# Altium footprint library PARSEC.PcbLib: 20 footprints (part 1 of 2)
Each footprint in its own frame and in the unit in brackets; x right, y up, seen from the top. Pads: shape width x height; smd on the part's side, far side on the other; paste and mask are expansions set on the pad; w line width, h text height; cw(c..) or ccw(c..) is an arc to the next point about the centre after c.
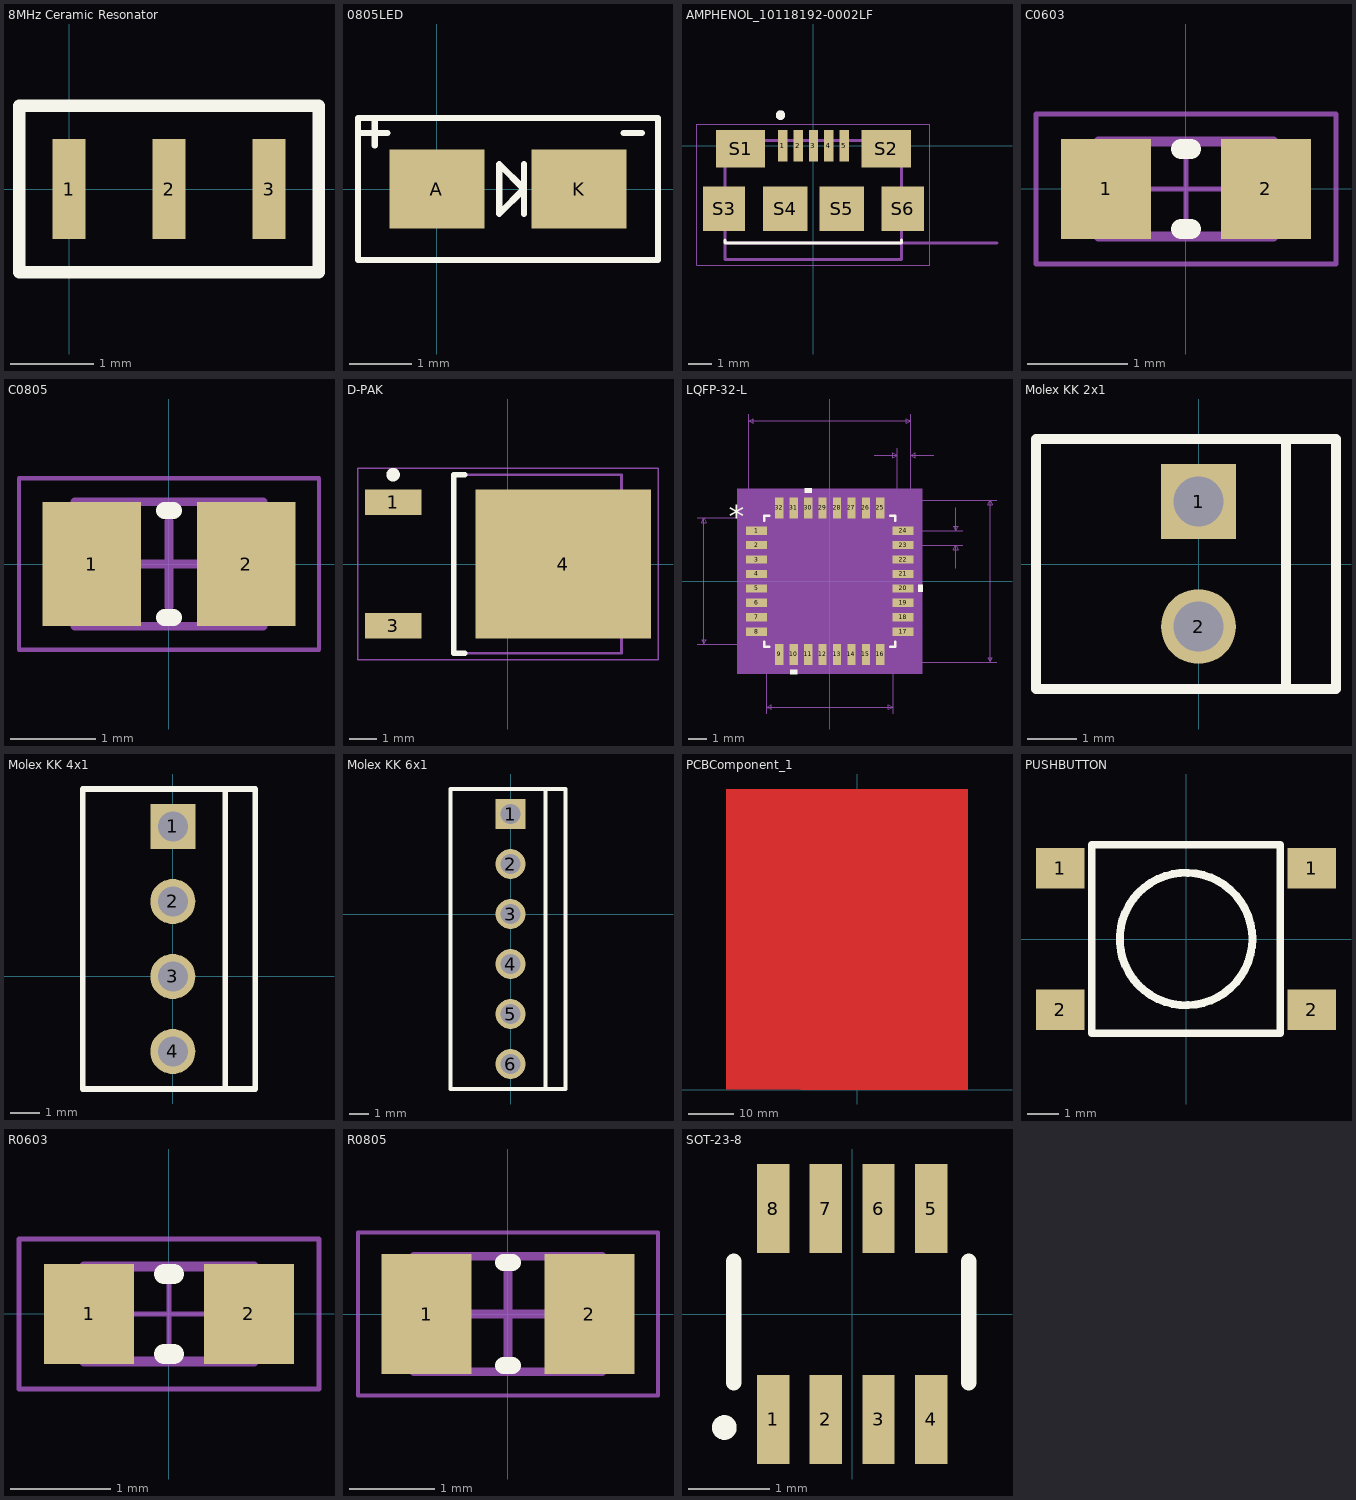
[diagram p0: the footprints below, top view; thin cyan lines are the x and y axes]

## 8MHz Ceramic Resonator [mm] "8MHz Ceramic Resonator Murata"
pads (3):
  rect 0.4x1.2 smd: 1(0,0) 2(1.2,0) 3(2.4,0)
Top Overlay:
  lines w0.15: -0.6,-1 3,-1 3,1 -0.6,1 -0.6,-1

## 0805LED [mil]
pads (2):
  rect 60x50 smd: A(0,0) K(90,0)
Top Overlay:
  lines w4: -50,35.43 -31.5,35.43 ; -39.37,27.56 -39.37,43.31 ; 55.12,-15.75 55.12,15.75 ; 118.11,35.43 129.92,35.43 ; -50,-45 -50,45 140,45 140,-45 -50,-45 ; 39.37,-15.75 39.37,15.75 55.12,0 39.37,-15.75
3D body "User Library-LED SMD0805.step": height 33.45, standoff 0.23, extent -0.6,-15.68 80.6,20

## AMPHENOL_10118192-0002LF [mm]
pads (11):
  rect 0.4x1.35 smd: 1(-1.3,0) 2(-0.65,0) 3(0,0) 4(0.65,0) 5(1.3,0)
  rect 2.1x1.6 smd: S1(-3.1,-0.125) S2(3.1,-0.125)
  rect 1.8x1.9 smd: S3(-3.8,-2.675) S6(3.8,-2.675)
  rect 1.9x1.9 smd: S4(-1.2,-2.675) S5(1.2,-2.675)
Top Overlay:
  circle w0.2: c-1.4,1.3 r0.1
  lines w0.127: -3.75,-4 -3.75,-4.125 3.75,-4.125 3.75,-4
Mechanical 13:
  circle w0.2: c-1.4,1.3 r0.1
  lines w0.127: 7.8,-4.125 3.75,-4.125 ; -3.75,-4.125 3.75,-4.125 ; -3.75,-4.125 -3.75,0.225 3.75,0.225 3.75,-4.125 ; -3.75,-4.125 -3.75,-4.825 3.75,-4.825 3.75,-4.125
  text "PCB Edge" at 5.1,-3.8 h0.41
Mechanical 15:
  lines w0.05: -4.95,-5.075 -4.95,0.925 4.95,0.925 4.95,-5.075 -4.95,-5.075

## C0603 [mm] "Chip Capacitor, Body 1.6x0.8mm, Height 1.0mm, IPC Medium Density"
height 1
pads (2):
  rect 0.9x1 smd: 1(-0.8,0) 2(0.8,0)
Top Overlay:
  lines w0.2: -0.05,-0.4 0.05,-0.4 ; -0.05,0.4 0.05,0.4
Mechanical 13:
  lines w0.1: -0.875,-0.475 0.875,-0.475 0.875,0.475 -0.875,0.475 -0.875,-0.475
Mechanical 15:
  lines w0.05: -0.475,0 0.475,0 ; 0,-0.475 0,0.475 ; -1.5,-0.75 1.5,-0.75 1.5,0.75 -1.5,0.75 -1.5,-0.75
3D body: height 1, standoff 0, extent 0.525,-0.475 0.875,0.475
3D body: height 1, standoff 0, extent -0.875,-0.475 -0.525,0.475
3D body: height 1, standoff 0, extent -0.525,-0.475 0.525,0.475

## C0805 [mm] "Chip Capacitor, Body 2.0x1.2mm, Height 0.75mm, IPC Medium Density"
height 0.75
pads (2):
  rect 1.15x1.45 smd: 1(-0.9,0) 2(0.9,0)
Top Overlay:
  lines w0.2: -0.05,-0.625 0.05,-0.625 ; -0.05,0.625 0.05,0.625
Mechanical 13:
  lines w0.1: -1.1,-0.725 -1.1,0.725 1.1,0.725 1.1,-0.725 -1.1,-0.725
Mechanical 15:
  lines w0.05: -1.75,-1 -1.75,1 1.75,1 1.75,-1 -1.75,-1
  lines w0.1: -0.5,0 0.5,0 ; 0,-0.5 0,0.5
3D body "User Library-cap0805.STEP": height 0.93, standoff -0.01, extent -1.425,-0.667 1.575,0.733

## D-PAK [mm] "D-PAK, 4-Leads, Body 6.1x6.5mm, Pitch 2.28mm, Lead Span 9.7mm, IPC Medium Density"
height 2.4
pads (3):
  rect 2.1x0.95 smd: 1(-4.25,2.28) 3(-4.25,-2.28)
  rect 6.5x5.5 smd: 4(2.05,0)
Top Overlay:
  circle w0.25: c-4.25,3.305 r0.125
  lines w0.2: -1.6,-3.3 -2,-3.3 -2,3.3 -1.6,3.3
Mechanical 13:
  lines w0.1: -2,-3.3 4.2,-3.3 4.2,3.3 -2,3.3 -2,-3.3
Mechanical 15:
  lines w0.05: -5.55,-3.55 5.55,-3.55 5.55,3.55 -5.55,3.55 -5.55,-3.55
  lines w0.1: -0.5,0 0.5,0 ; 0,-0.5 0,0.5
3D body "User Library-TO252AA.step": height 2.3, standoff -0.01, extent -4.596,-3.278 5.104,3.302

## LQFP-32-L [mil]
pads (32):
  rect 46x18 smd paste+0 mask+0: 1(-160,110.24) 2(-160,78.74) 3(-160,47.24) 4(-160,15.75) 5(-160,-15.75) 6(-160,-47.24) 7(-160,-78.74) 8(-160,-110.24) 17(160,-110.24) 18(160,-78.74) 19(160,-47.24) 20(160,-15.75) 21(160,15.75) 22(160,47.24) 23(160,78.74) 24(160,110.24)
  rect 18x46 smd paste+0 mask+0: 9(-110.24,-160) 10(-78.74,-160) 11(-47.24,-160) 12(-15.75,-160) 13(15.75,-160) 14(47.24,-160) 15(78.74,-160) 16(110.24,-160) 25(110.24,160) 26(78.74,160) 27(47.24,160) 28(15.75,160) 29(-15.75,160) 30(-47.24,160) 31(-78.74,160) 32(-110.24,160)
Top Overlay:
  region: -71.24,-193 -86.24,-193 -86.24,-203 -71.24,-203
  region: 193,-8.25 203,-8.25 203,-23.25 193,-23.25
  region: -39.74,193 -54.74,193 -54.74,203 -39.74,203
  lines w6: -143,-132.34 -143,-143 -132.34,-143 ; -143,132.34 -143,143 -132.34,143 ; 132.34,-143 143,-143 143,-132.34 ; 132.34,143 143,143 143,132.34
  text "*" at -220.5,115.98 h50
Mechanical 5:
  region: 202,-202 -202,-202 -202,202 202,202
Mechanical 7:
  lines w1: -290,-138 -110.24,-138 ; -290,138 -110.24,138 ; -177,110.24 -177,365 ; -138,-290 -138,-110.24 ; 97,275 147,275 ; 110.24,-177 365,-177 ; 110.24,177 365,177 ; 138,-290 138,-110.24 ; 147,110.24 147,290 ; 160,78.74 290,78.74 ; 160,110.24 290,110.24 ; 177,290 177,110.24 177,365 ; 227,275 177,275 ; 275,28.74 275,78.74 ; 275,160.24 275,110.24 ; -275,-138 -275,138 ; -275,-138 -280,-128 -270,-128 -275,-138 ; -275,138 -280,128 -270,128 -275,138 ; -177,350 177,350 ; -177,350 -167,355 -167,345 -177,350 ; -138,-275 138,-275 ; -138,-275 -128,-270 -128,-280 -138,-275 ; 138,-275 128,-270 128,-280 138,-275 ; 147,275 137,280 137,270 147,275 ; 177,275 187,280 187,270 177,275 ; 177,350 167,355 167,345 177,350 ; 275,78.74 270,68.74 280,68.74 275,78.74 ; 275,110.24 270,120.24 280,120.24 275,110.24 ; 350,-177 350,177 ; 350,-177 345,-167 355,-167 350,-177 ; 350,177 345,167 355,167 350,177
  text "Default Horiz Padstyle: RX18Y46D0T" at -425,-425 h50
  text "Default Vert Padstyle: RX18Y46D0T" at -412.5,-485 h50
  text "Alt 1 Padstyle: OX60Y90D30P" at -337.5,-665 h50
  text "Alt 2 Padstyle: OX90Y60D30P" at -337.5,-725 h50
  text "0.031in/0.8mm" at 295,81.99 h25
  text "0.03in/0.762mm" at 74.5,295 h25
  text "0.354in/8.992mm" at -93.75,370 h25
  text "0.276in/7.01mm" at -87.5,-320 h25
  text "0.276in/7.01mm" at -470,-12.5 h25
  text "0.354in/8.992mm" at 370,-12.5 h25
Mechanical 13:
  lines w1: -138,88 -88,138 ; -177,-119.24 -177,-101.24 -138,-101.24 -138,-119.24 -177,-119.24 ; -177,-87.74 -177,-69.74 -138,-69.74 -138,-87.74 -177,-87.74 ; -177,-56.24 -177,-38.24 -138,-38.24 -138,-56.24 -177,-56.24 ; -177,-24.75 -177,-6.75 -138,-6.75 -138,-24.75 -177,-24.75 ; -177,6.75 -177,24.75 -138,24.75 -138,6.75 -177,6.75 ; -177,38.24 -177,56.24 -138,56.24 -138,38.24 -177,38.24 ; -177,69.74 -177,87.74 -138,87.74 -138,69.74 -177,69.74 ; -177,101.24 -177,119.24 -138,119.24 -138,101.24 -177,101.24 ; -138,-138 138,-138 138,138 -138,138 -138,-138 ; -119.24,-177 -119.24,-138 -101.24,-138 -101.24,-177 -119.24,-177 ; -119.24,138 -101.24,138 -101.24,177 -119.24,177 -119.24,138 ; -87.74,-177 -87.74,-138 -69.74,-138 -69.74,-177 -87.74,-177 ; -87.74,138 -69.74,138 -69.74,177 -87.74,177 -87.74,138 ; -56.24,-177 -56.24,-138 -38.24,-138 -38.24,-177 -56.24,-177 ; -56.24,138 -38.24,138 -38.24,177 -56.24,177 -56.24,138 ; -24.75,-177 -24.75,-138 -6.75,-138 -6.75,-177 -24.75,-177 ; -24.75,138 -6.75,138 -6.75,177 -24.75,177 -24.75,138 ; 6.75,-177 6.75,-138 24.75,-138 24.75,-177 6.75,-177 ; 6.75,138 24.75,138 24.75,177 6.75,177 6.75,138 ; 38.24,-177 38.24,-138 56.24,-138 56.24,-177 38.24,-177 ; 38.24,138 56.24,138 56.24,177 38.24,177 38.24,138 ; 69.74,-177 69.74,-138 87.74,-138 87.74,-177 69.74,-177 ; 69.74,138 87.74,138 87.74,177 69.74,177 69.74,138 ; 101.24,-177 101.24,-138 119.24,-138 119.24,-177 101.24,-177 ; 101.24,138 119.24,138 119.24,177 101.24,177 101.24,138 ; 138,-119.24 138,-101.24 177,-101.24 177,-119.24 138,-119.24 ; 138,-87.74 138,-69.74 177,-69.74 177,-87.74 138,-87.74 ; 138,-56.24 138,-38.24 177,-38.24 177,-56.24 138,-56.24 ; 138,-24.75 138,-6.75 177,-6.75 177,-24.75 138,-24.75 ; 138,6.75 138,24.75 177,24.75 177,6.75 138,6.75 ; 138,38.24 138,56.24 177,56.24 177,38.24 138,38.24 ; 138,69.74 138,87.74 177,87.74 177,69.74 138,69.74 ; 138,101.24 138,119.24 177,119.24 177,101.24 138,101.24
  text "*" at -135.5,100.98 h50
Mechanical 15:
  region: -123.24,-142 -142,-142 -142,-123.24 -187,-123.24 -187,123.24 -142,123.24 -142,142 -123.24,142 -123.24,187 123.24,187 123.24,142 142,142 142,123.24 187,123.24 187,-123.24 142,-123.24 142,-142 123.24,-142 123.24,-187 -123.24,-187
  lines w6: -187,-123.24 -142,-123.24 -142,-142 -123.24,-142 -123.24,-187 123.24,-187 123.24,-142 142,-142 142,-123.24 187,-123.24 187,123.24 142,123.24 142,142 123.24,142 123.24,187 -123.24,187 -123.24,142 -142,142 -142,123.24 -187,123.24 -187,-123.24
3D body: height 10, standoff 0, extent 0,0 10,10

## Molex KK 2x1 [mil]
pads (2):
  rect 60x60 hole 40: 1(0,50)
  round 60 hole 40: 2(0,-50)
Top Overlay:
  lines w7.87: -120,-100 110,-100 110,100 -130,100 -130,-60 -130,-100 -110,-100 ; 70,-100 70,100
3D body "User Library-molex kk 0_1in latching 2 way vertical header.step": height 457.5, standoff -142.5, extent -120,-100 110,100

## Molex KK 4x1 [mil]
pads (4):
  rect 60x60 hole 40: 1(0,200)
  round 60 hole 40: 2(0,100) 3(0,0) 4(0,-100)
Top Overlay:
  lines w7.87: 70,-150 70,250 ; -120,-150 110,-150 110,250 -120,250 -120,-120 -120,-150
3D body "User Library-molex kk 0_1in latching 4 way vertical header.step": height 457.5, standoff -142.5, extent -120,-150 110,250

## Molex KK 6x1 [mil]
pads (6):
  rect 60x60 hole 40: 1(0,200)
  round 60 hole 40: 2(0,100) 3(0,0) 4(0,-100) 5(0,-200) 6(0,-300)
Top Overlay:
  lines w7.87: 70,-350 70,250 ; -120,-350 110,-350 110,250 -120,250 -120,-120 -120,-350
3D body "User Library-molex kk 0_1in latching 6 way vertical header.step": height 457.5, standoff -142.5, extent -120,-350 110,250

## PCBComponent_1 [mm]
Top Layer:
  region: -28.593,65.651 -25.781,65.651 -25.781,60.614 -28.593,60.614
  region: -25.781,65.651 -25.625,65.651 -25.625,60.614 -25.781,60.614
  region: -28.593,64.392 -25.937,64.392 -25.937,64.235 -28.593,64.235
  region: -28.593,61.874 -25.937,61.874 -25.937,61.716 -28.593,61.716
  region: -28.593,64.235 -28.437,64.235 -28.437,61.874 -28.593,61.874
  region: -26.093,64.235 -25.937,64.235 -25.937,61.874 -26.093,61.874
  region: -28.125,63.133 -26.406,63.133 -26.406,62.976 -28.125,62.976
  region: -25.781,65.651 -20.781,65.651 -20.781,60.614 -25.781,60.614
  region: -28.593,60.614 -25.781,60.614 -25.781,55.577 -28.593,55.577
  region: -25.781,60.614 -22.969,60.614 -22.969,55.577 -25.781,55.577
  region: -22.969,60.614 -22.812,60.614 -22.812,55.577 -22.969,55.577
  region: -25.781,59.355 -23.125,59.355 -23.125,59.198 -25.781,59.198
  region: -25.781,56.837 -23.125,56.837 -23.125,56.679 -25.781,56.679
  region: -25.781,59.198 -25.625,59.198 -25.625,56.837 -25.781,56.837
  region: -23.281,59.198 -23.125,59.198 -23.125,56.837 -23.281,56.837
  region: -25.312,58.096 -23.594,58.096 -23.594,57.938 -25.312,57.938
  region: -22.969,60.614 -17.969,60.614 -17.969,55.577 -22.969,55.577
  region: -28.593,55.577 -25.781,55.577 -25.781,50.54 -28.593,50.54
  region: -25.781,55.577 -22.969,55.577 -22.969,50.54 -25.781,50.54
  region: -22.969,55.577 -20.156,55.577 -20.156,50.54 -22.969,50.54
  region: -20.156,55.577 -20,55.577 -20,50.54 -20.156,50.54
  region: -22.969,54.318 -20.312,54.318 -20.312,54.161 -22.969,54.161
  region: -22.969,51.8 -20.312,51.8 -20.312,51.642 -22.969,51.642
  region: -22.969,54.161 -22.812,54.161 -22.812,51.8 -22.969,51.8
  region: -20.469,54.161 -20.312,54.161 -20.312,51.8 -20.469,51.8
  region: -22.5,53.059 -20.781,53.059 -20.781,52.901 -22.5,52.901
  region: -20.156,55.577 -15.156,55.577 -15.156,50.54 -20.156,50.54
  region: -28.593,50.54 -25.781,50.54 -25.781,45.503 -28.593,45.503
  region: -25.781,50.54 -22.969,50.54 -22.969,45.503 -25.781,45.503
  region: -22.969,50.54 -20.156,50.54 -20.156,45.503 -22.969,45.503
  region: -20.156,50.54 -17.344,50.54 -17.344,45.503 -20.156,45.503
  region: -17.344,50.54 -12.344,50.54 -12.344,45.503 -17.344,45.503
  region: -28.593,45.503 -25.781,45.503 -25.781,40.466 -28.593,40.466
  region: -25.781,45.503 -22.969,45.503 -22.969,40.466 -25.781,40.466
  region: -22.969,45.503 -20.156,45.503 -20.156,40.466 -22.969,40.466
  region: -20.156,45.503 -17.344,45.503 -17.344,40.466 -20.156,40.466
  region: -17.344,45.503 -12.344,45.503 -12.344,40.466 -17.344,40.466
  region: -28.593,40.466 -25.781,40.466 -25.781,35.429 -28.593,35.429
  region: -25.781,40.466 -22.969,40.466 -22.969,35.429 -25.781,35.429
  region: -22.969,40.466 -20.156,40.466 -20.156,35.429 -22.969,35.429
  region: -20.156,40.466 -20,40.466 -20,35.429 -20.156,35.429
  region: -22.969,39.207 -20.312,39.207 -20.312,39.05 -22.969,39.05
  region: -22.969,36.688 -20.312,36.688 -20.312,36.531 -22.969,36.531
  region: -22.969,39.05 -22.812,39.05 -22.812,36.688 -22.969,36.688
  region: -20.469,39.05 -20.312,39.05 -20.312,36.688 -20.469,36.688
  region: -22.5,37.948 -20.781,37.948 -20.781,37.79 -22.5,37.79
  region: -20.156,40.466 -15.156,40.466 -15.156,35.429 -20.156,35.429
  region: -28.593,35.429 -25.781,35.429 -25.781,30.392 -28.593,30.392
  region: -25.781,35.429 -22.969,35.429 -22.969,30.392 -25.781,30.392
  region: -22.969,35.429 -20.156,35.429 -20.156,30.392 -22.969,30.392
  region: -20.156,35.429 -17.344,35.429 -17.344,30.392 -20.156,30.392
  region: -17.344,35.429 -17.187,35.429 -17.187,30.392 -17.344,30.392
  region: -20.156,34.17 -17.5,34.17 -17.5,34.013 -20.156,34.013
  region: -20.156,31.651 -17.5,31.651 -17.5,31.494 -20.156,31.494
  region: -20.156,34.013 -20,34.013 -20,31.651 -20.156,31.651
  region: -17.656,34.013 -17.5,34.013 -17.5,31.651 -17.656,31.651
  region: -19.687,32.911 -17.969,32.911 -17.969,32.753 -19.687,32.753
  region: -17.344,35.429 -12.344,35.429 -12.344,30.392 -17.344,30.392
  region: -28.593,30.392 -25.781,30.392 -25.781,25.355 -28.593,25.355
  region: -25.781,30.392 -22.969,30.392 -22.969,25.355 -25.781,25.355
  region: -22.969,30.392 -20.156,30.392 -20.156,25.355 -22.969,25.355
  region: -20.156,30.392 -17.344,30.392 -17.344,25.355 -20.156,25.355
  region: -17.344,30.392 -14.531,30.392 -14.531,25.355 -17.344,25.355
  region: -14.531,30.392 -9.531,30.392 -9.531,25.355 -14.531,25.355
  region: -28.593,25.355 -25.781,25.355 -25.781,20.318 -28.593,20.318
  region: -25.781,25.355 -22.969,25.355 -22.969,20.318 -25.781,20.318
  region: -22.969,25.355 -20.156,25.355 -20.156,20.318 -22.969,20.318
  region: -20.156,25.355 -17.344,25.355 -17.344,20.318 -20.156,20.318
  region: -17.344,25.355 -17.187,25.355 -17.187,20.318 -17.344,20.318
  region: -20.156,24.096 -17.5,24.096 -17.5,23.938 -20.156,23.938
  region: -20.156,21.577 -17.5,21.577 -17.5,21.42 -20.156,21.42
  region: -20.156,23.938 -20,23.938 -20,21.577 -20.156,21.577
  region: -17.656,23.938 -17.5,23.938 -17.5,21.577 -17.656,21.577
  region: -19.687,22.837 -17.969,22.837 -17.969,22.679 -19.687,22.679
  region: -17.344,25.355 -12.344,25.355 -12.344,20.318 -17.344,20.318
  region: -28.593,20.318 -25.781,20.318 -25.781,15.281 -28.593,15.281
  region: -25.781,20.318 -22.969,20.318 -22.969,15.281 -25.781,15.281
  region: -22.969,20.318 -20.156,20.318 -20.156,15.281 -22.969,15.281
  region: -20.156,20.318 -17.344,20.318 -17.344,15.281 -20.156,15.281
  region: -17.344,20.318 -14.531,20.318 -14.531,15.281 -17.344,15.281
  region: -14.531,20.318 -9.531,20.318 -9.531,15.281 -14.531,15.281
  region: -28.593,15.281 -25.781,15.281 -25.781,10.244 -28.593,10.244
  region: -25.781,15.281 -22.969,15.281 -22.969,10.244 -25.781,10.244
  region: -22.969,15.281 -22.812,15.281 -22.812,10.244 -22.969,10.244
  region: -25.781,14.022 -23.125,14.022 -23.125,13.864 -25.781,13.864
  region: -25.781,11.503 -23.125,11.503 -23.125,11.346 -25.781,11.346
  region: -25.781,13.864 -25.625,13.864 -25.625,11.503 -25.781,11.503
  region: -23.281,13.864 -23.125,13.864 -23.125,11.503 -23.281,11.503
  region: -25.312,12.763 -23.594,12.763 -23.594,12.605 -25.312,12.605
  region: -22.969,15.281 -17.969,15.281 -17.969,10.244 -22.969,10.244
  region: -28.593,10.244 -25.781,10.244 -25.781,5.207 -28.593,5.207
  region: -25.781,10.244 -22.969,10.244 -22.969,5.207 -25.781,5.207
  region: -22.969,10.244 -20.156,10.244 -20.156,5.207 -22.969,5.207
  region: -20.156,10.244 -20,10.244 -20,5.207 -20.156,5.207
  region: -22.969,8.985 -20.312,8.985 -20.312,8.827 -22.969,8.827
  region: -22.969,6.466 -20.312,6.466 -20.312,6.309 -22.969,6.309
  region: -22.969,8.827 -22.812,8.827 -22.812,6.466 -22.969,6.466
  region: -20.469,8.827 -20.312,8.827 -20.312,6.466 -20.469,6.466
  region: -22.5,7.726 -20.781,7.726 -20.781,7.568 -22.5,7.568
  region: -20.156,10.244 -15.156,10.244 -15.156,5.207 -20.156,5.207
  region: -28.593,5.207 -25.781,5.207 -25.781,0.17 -28.593,0.17
  region: -25.781,5.207 -22.969,5.207 -22.969,0.17 -25.781,0.17
  region: -22.969,5.207 -20.156,5.207 -20.156,0.17 -22.969,0.17
  region: -20.156,5.207 -17.344,5.207 -17.344,0.17 -20.156,0.17
  region: -17.344,5.207 -12.344,5.207 -12.344,0.17 -17.344,0.17
  region: -20.781,65.651 15.625,65.651 15.625,60.614 -20.781,60.614
  region: 15.625,65.651 19.844,65.651 19.844,60.614 15.625,60.614
  region: 19.844,65.651 24.063,65.651 24.063,60.614 19.844,60.614
  region: -17.969,60.614 15.625,60.614 15.625,55.577 -17.969,55.577
  region: 15.625,60.614 19.844,60.614 19.844,55.577 15.625,55.577
  region: 19.844,60.614 24.063,60.614 24.063,55.577 19.844,55.577
  region: -15.156,55.577 15.625,55.577 15.625,50.54 -15.156,50.54
  region: 15.625,55.577 19.844,55.577 19.844,50.54 15.625,50.54
  region: 19.844,55.577 24.063,55.577 24.063,50.54 19.844,50.54
  region: -12.344,50.54 15.625,50.54 15.625,45.503 -12.344,45.503
  region: 15.625,50.54 19.844,50.54 19.844,45.503 15.625,45.503
  region: 19.844,50.54 24.063,50.54 24.063,45.503 19.844,45.503
  region: -12.344,45.503 15.625,45.503 15.625,40.466 -12.344,40.466
  region: 15.625,45.503 19.844,45.503 19.844,40.466 15.625,40.466
  region: 19.844,45.503 24.063,45.503 24.063,40.466 19.844,40.466
  region: -15.156,40.466 15.625,40.466 15.625,35.429 -15.156,35.429
  region: 15.625,40.466 19.844,40.466 19.844,35.429 15.625,35.429
  region: 19.844,40.466 24.063,40.466 24.063,35.429 19.844,35.429
  region: -12.344,35.429 15.625,35.429 15.625,30.392 -12.344,30.392
  region: 15.625,35.429 19.844,35.429 19.844,30.392 15.625,30.392
  region: 19.844,35.429 24.063,35.429 24.063,30.392 19.844,30.392
  region: -9.531,30.392 15.625,30.392 15.625,25.355 -9.531,25.355
  region: 15.625,30.392 19.844,30.392 19.844,25.355 15.625,25.355
  region: 19.844,30.392 24.063,30.392 24.063,25.355 19.844,25.355
  region: -12.344,25.355 15.625,25.355 15.625,20.318 -12.344,20.318
  region: 15.625,25.355 19.844,25.355 19.844,20.318 15.625,20.318
  region: 19.844,25.355 24.063,25.355 24.063,20.318 19.844,20.318
  region: -9.531,20.318 15.625,20.318 15.625,15.281 -9.531,15.281
  region: 15.625,20.318 19.844,20.318 19.844,15.281 15.625,15.281
  region: 19.844,20.318 24.063,20.318 24.063,15.281 19.844,15.281
  region: -17.969,15.281 15.625,15.281 15.625,10.244 -17.969,10.244
  region: -17.969,15.281 15.782,15.281 15.782,15.124 -17.969,15.124
  region: -17.969,10.401 15.782,10.401 15.782,10.244 -17.969,10.244
  region: -17.969,15.124 -17.812,15.124 -17.812,10.401 -17.969,10.401
  region: 15.625,15.124 15.782,15.124 15.782,10.401 15.625,10.401
  region: -17.812,15.124 15.782,15.124 15.782,14.966 -17.812,14.966
  region: -17.812,10.559 15.782,10.559 15.782,10.401 -17.812,10.401
  region: -17.812,14.966 -17.656,14.966 -17.656,10.559 -17.812,10.559
  region: 15.625,14.966 15.782,14.966 15.782,10.559 15.625,10.559
  region: 15.625,15.281 19.844,15.281 19.844,10.244 15.625,10.244
  region: 15.469,15.281 20,15.281 20,15.124 15.469,15.124
  region: 15.469,10.401 20,10.401 20,10.244 15.469,10.244
  region: 15.469,15.124 15.625,15.124 15.625,10.401 15.469,10.401
  region: 19.844,15.124 20,15.124 20,10.401 19.844,10.401
  region: 15.469,15.124 20,15.124 20,14.966 15.469,14.966
  region: 15.469,10.559 20,10.559 20,10.401 15.469,10.401
  region: 15.469,14.966 15.625,14.966 15.625,10.559 15.469,10.559
  region: 19.844,14.966 20,14.966 20,10.559 19.844,10.559
  region: 19.844,15.281 24.063,15.281 24.063,10.244 19.844,10.244
  region: 19.688,15.281 24.063,15.281 24.063,15.124 19.688,15.124
  region: 19.688,10.401 24.063,10.401 24.063,10.244 19.688,10.244
  region: 19.688,15.124 19.844,15.124 19.844,10.401 19.688,10.401
  region: 23.907,15.124 24.063,15.124 24.063,10.401 23.907,10.401
  region: 19.688,15.124 23.907,15.124 23.907,14.966 19.688,14.966
  region: 19.688,10.559 23.907,10.559 23.907,10.401 19.688,10.401
  region: 19.688,14.966 19.844,14.966 19.844,10.559 19.688,10.559
  region: 23.75,14.966 23.907,14.966 23.907,10.559 23.75,10.559
  region: -15.156,10.244 15.625,10.244 15.625,5.207 -15.156,5.207
  region: 15.625,10.244 19.844,10.244 19.844,5.207 15.625,5.207
  region: 19.844,10.244 24.063,10.244 24.063,5.207 19.844,5.207
  region: -12.344,5.207 15.625,5.207 15.625,0.17 -12.344,0.17
  region: 15.625,5.207 19.844,5.207 19.844,0.17 15.625,0.17
  region: 19.844,5.207 24.063,5.207 24.063,0.17 19.844,0.17
  lines w0.156: -17.969,15.281 15.625,15.281 19.844,15.281 24.063,15.281 ; -17.969,60.614 15.625,60.614 19.844,60.614 24.063,60.614 ; -15.156,10.244 15.625,10.244 19.844,10.244 24.063,10.244 ; -15.156,40.466 15.625,40.466 19.844,40.466 24.063,40.466 ; -15.156,55.577 15.625,55.577 19.844,55.577 24.063,55.577 ; -12.344,0.17 15.625,0.17 19.844,0.17 24.063,0.17 ; -12.344,5.207 15.625,5.207 19.844,5.207 24.063,5.207 ; -12.344,25.355 15.625,25.355 19.844,25.355 24.063,25.355 ; -12.344,35.429 15.625,35.429 19.844,35.429 24.063,35.429 ; -12.344,45.503 15.625,45.503 19.844,45.503 24.063,45.503 ; -12.344,50.54 15.625,50.54 19.844,50.54 24.063,50.54 ; -9.531,20.318 15.625,20.318 19.844,20.318 24.063,20.318 ; -9.531,30.392 15.625,30.392 19.844,30.392 24.063,30.392
  text "P" at -20.469,62.607 h3.51
  text "r" at -18.894,62.607 h3.51
  text "o" at -17.793,62.607 h3.51
  text "j" at -16.218,62.607 h3.51
  text "e" at -15.431,62.607 h3.51
  text "c" at -14.015,62.607 h3.51
  text "t" at -12.756,62.607 h3.51
  text "G" at -10.867,62.607 h3.51
  text "r" at -8.978,62.607 h3.51
  text "o" at -7.876,62.607 h3.51
  text "u" at -6.302,62.607 h3.51
  text "p" at -4.728,62.607 h3.51
  text "1" at -2.209,62.607 h3.51
  text "." at -0.635,62.607 h3.51
  text "D" at 0.152,62.607 h3.51
  text "s" at 2.198,62.607 h3.51
  text "n" at 3.3,62.607 h3.51
  text "W" at 4.874,62.607 h3.51
  text "r" at 7.55,62.607 h3.51
  text "k" at 8.652,62.607 h3.51
  text "f" at -17.656,57.57 h3.51
  text "l" at -16.554,57.57 h3.51
  text "i" at -15.767,57.57 h3.51
  text "g" at -14.98,57.57 h3.51
  text "h" at -13.249,57.57 h3.51
  text "t" at -11.675,57.57 h3.51
  text "_" at -10.573,57.57 h3.51
  text "d" at -9.471,57.57 h3.51
  text "a" at -7.739,57.57 h3.51
  text "t" at -6.323,57.57 h3.51
  text "a" at -5.221,57.57 h3.51
  text "_" at -3.804,57.57 h3.51
  text "r" at -2.702,57.57 h3.51
  text "o" at -1.6,57.57 h3.51
  text "c" at -0.026,57.57 h3.51
  text "k" at 1.233,57.57 h3.51
  text "e" at 2.807,57.57 h3.51
  text "t" at 4.224,57.57 h3.51
  text "_" at 5.325,57.57 h3.51
  text "b" at 6.427,57.57 h3.51
  text "o" at 8.159,57.57 h3.51
  text "a" at 9.733,57.57 h3.51
  text "r" at 11.15,57.57 h3.51
  text "d" at 12.251,57.57 h3.51
  text "." at 13.983,57.57 h3.51
  text "P" at 14.77,57.57 h3.51
  text "r" at 16.344,57.57 h3.51
  text "j" at 17.446,57.57 h3.51
  text "P" at 18.233,57.57 h3.51
  text "c" at 19.807,57.57 h3.51
  text "b" at 21.066,57.57 h3.51
  text "S" at -14.844,52.533 h3.51
  text "o" at -13.427,52.533 h3.51
  text "u" at -11.853,52.533 h3.51
  text "r" at -10.279,52.533 h3.51
  text "c" at -9.334,52.533 h3.51
  text "e" at -8.075,52.533 h3.51
  text "D" at -5.871,52.533 h3.51
  text "o" at -3.982,52.533 h3.51
  text "c" at -2.408,52.533 h3.51
  text "u" at -1.149,52.533 h3.51
  text "m" at 0.425,52.533 h3.51
  text "e" at 2.786,52.533 h3.51
  text "n" at 4.203,52.533 h3.51
  text "t" at 5.777,52.533 h3.51
  text "s" at 6.721,52.533 h3.51
  text "P" at -12.031,47.496 h3.51
  text "o" at -10.457,47.496 h3.51
  text "w" at -8.883,47.496 h3.51
  text "e" at -6.994,47.496 h3.51
  text "r" at -5.577,47.496 h3.51
  text "_" at -4.633,47.496 h3.51
  text "S" at -3.531,47.496 h3.51
  text "c" at -2.114,47.496 h3.51
  text "h" at -0.855,47.496 h3.51
  text "e" at 0.719,47.496 h3.51
  text "m" at 2.136,47.496 h3.51
  text "a" at 4.497,47.496 h3.51
  text "t" at 5.913,47.496 h3.51
  text "i" at 6.858,47.496 h3.51
  text "c" at 7.488,47.496 h3.51
  text "." at 8.747,47.496 h3.51
  text "S" at 9.376,47.496 h3.51
  text "c" at 10.793,47.496 h3.51
  text "h" at 12.052,47.496 h3.51
  text "D" at 13.626,47.496 h3.51
  text "o" at 15.515,47.496 h3.51
  text "c" at 17.089,47.496 h3.51
  text "C" at -12.031,42.459 h3.51
  text "A" at -10.3,42.459 h3.51
  text "N" at -8.568,42.459 h3.51
  text "_" at -6.522,42.459 h3.51
  text "c" at -5.42,42.459 h3.51
  text "i" at -4.161,42.459 h3.51
  text "r" at -3.531,42.459 h3.51
  text "c" at -2.587,42.459 h3.51
  text "u" at -1.327,42.459 h3.51
  text "i" at 0.247,42.459 h3.51
  text "t" at 0.876,42.459 h3.51
  text "." at 1.821,42.459 h3.51
  text "S" at 2.45,42.459 h3.51
  text "c" at 3.867,42.459 h3.51
  text "h" at 5.126,42.459 h3.51
  text "D" at 6.7,42.459 h3.51
  text "o" at 8.589,42.459 h3.51
  text "c" at 10.163,42.459 h3.51
  text "L" at -14.844,37.422 h3.51
  text "i" at -13.584,37.422 h3.51
  text "b" at -12.955,37.422 h3.51
  text "r" at -11.381,37.422 h3.51
  text "a" at -10.436,37.422 h3.51
  text "r" at -9.019,37.422 h3.51
  text "i" at -8.075,37.422 h3.51
  text "e" at -7.445,37.422 h3.51
  text "s" at -6.029,37.422 h3.51
  text "P" at -12.031,32.384 h3.51
  text "C" at -10.457,32.384 h3.51
  text "B" at -8.725,32.384 h3.51
  text "L" at -6.364,32.384 h3.51
  text "i" at -5.105,32.384 h3.51
  text "b" at -4.475,32.384 h3.51
  text "r" at -2.901,32.384 h3.51
  text "a" at -1.957,32.384 h3.51
  text "r" at -0.54,32.384 h3.51
  text "y" at 0.404,32.384 h3.51
  text "D" at 2.45,32.384 h3.51
  text "o" at 4.339,32.384 h3.51
  text "c" at 5.913,32.384 h3.51
  text "u" at 7.173,32.384 h3.51
  text "m" at 8.747,32.384 h3.51
  text "e" at 11.108,32.384 h3.51
  text "n" at 12.525,32.384 h3.51
  text "t" at 14.099,32.384 h3.51
  text "s" at 15.043,32.384 h3.51
  text "P" at -9.219,27.347 h3.51
  text "A" at -7.644,27.347 h3.51
  text "R" at -5.913,27.347 h3.51
  text "S" at -4.339,27.347 h3.51
  text "E" at -2.922,27.347 h3.51
  text "C" at -1.506,27.347 h3.51
  text "." at 0.226,27.347 h3.51
  text "P" at 0.856,27.347 h3.51
  text "c" at 2.43,27.347 h3.51
  text "b" at 3.689,27.347 h3.51
  text "L" at 5.263,27.347 h3.51
  text "i" at 6.522,27.347 h3.51
  text "b" at 7.152,27.347 h3.51
  text "S" at -12.031,22.31 h3.51
  text "c" at -10.614,22.31 h3.51
  text "h" at -9.355,22.31 h3.51
  text "e" at -7.781,22.31 h3.51
  text "m" at -6.364,22.31 h3.51
  text "a" at -4.003,22.31 h3.51
  text "t" at -2.587,22.31 h3.51
  text "i" at -1.642,22.31 h3.51
  text "c" at -1.012,22.31 h3.51
  text "L" at 1.034,22.31 h3.51
  text "i" at 2.293,22.31 h3.51
  text "b" at 2.923,22.31 h3.51
  text "r" at 4.497,22.31 h3.51
  text "a" at 5.441,22.31 h3.51
  text "r" at 6.858,22.31 h3.51
  text "y" at 7.802,22.31 h3.51
  text "D" at 9.849,22.31 h3.51
  text "o" at 11.738,22.31 h3.51
  text "c" at 13.312,22.31 h3.51
  text "u" at 14.571,22.31 h3.51
  text "m" at 16.145,22.31 h3.51
  text "e" at 18.506,22.31 h3.51
  text "n" at 19.923,22.31 h3.51
  text "t" at 21.497,22.31 h3.51
  text "s" at 22.441,22.31 h3.51
  text "P" at -9.219,17.273 h3.51
  text "A" at -7.644,17.273 h3.51
  text "R" at -5.913,17.273 h3.51
  text "S" at -4.339,17.273 h3.51
  text "E" at -2.922,17.273 h3.51
  text "C" at -1.506,17.273 h3.51
  text "." at 0.226,17.273 h3.51
  text "S" at 0.856,17.273 h3.51
  text "c" at 2.272,17.273 h3.51
  text "h" at 3.531,17.273 h3.51
  text "L" at 5.106,17.273 h3.51
  text "i" at 6.365,17.273 h3.51
  text "b" at 6.994,17.273 h3.51
  text "g" at -17.656,12.236 h3.51
  text "r" at -15.925,12.236 h3.51
  text "o" at -14.823,12.236 h3.51
  text "u" at -13.249,12.236 h3.51
  text "n" at -11.675,12.236 h3.51
  text "d" at -10.1,12.236 h3.51
  text "_" at -8.369,12.236 h3.51
  text "r" at -7.267,12.236 h3.51
  text "e" at -6.165,12.236 h3.51
  text "c" at -4.749,12.236 h3.51
  text "e" at -3.489,12.236 h3.51
  text "i" at -2.073,12.236 h3.51
  text "v" at -1.286,12.236 h3.51
  text "e" at 0.131,12.236 h3.51
  text "r" at 1.548,12.236 h3.51
  text "_" at 2.65,12.236 h3.51
  text "b" at 3.751,12.236 h3.51
  text "o" at 5.483,12.236 h3.51
  text "a" at 7.057,12.236 h3.51
  text "r" at 8.474,12.236 h3.51
  text "d" at 9.575,12.236 h3.51
  text "." at 11.307,12.236 h3.51
  text "P" at 12.094,12.236 h3.51
  text "r" at 13.668,12.236 h3.51
  text "j" at 14.77,12.236 h3.51
  text "P" at 15.557,12.236 h3.51
  text "c" at 17.131,12.236 h3.51
  text "b" at 18.39,12.236 h3.51
  text "*" at 20.909,12.236 h3.51
  text "S" at -14.844,7.199 h3.51
  text "o" at -13.427,7.199 h3.51
  text "u" at -11.853,7.199 h3.51
  text "r" at -10.279,7.199 h3.51
  text "c" at -9.334,7.199 h3.51
  text "e" at -8.075,7.199 h3.51
  text "D" at -5.871,7.199 h3.51
  text "o" at -3.982,7.199 h3.51
  text "c" at -2.408,7.199 h3.51
  text "u" at -1.149,7.199 h3.51
  text "m" at 0.425,7.199 h3.51
  text "e" at 2.786,7.199 h3.51
  text "n" at 4.203,7.199 h3.51
  text "t" at 5.777,7.199 h3.51
  text "s" at 6.721,7.199 h3.51
  text "r" at -12.031,2.162 h3.51
  text "e" at -11.087,2.162 h3.51
  text "c" at -9.67,2.162 h3.51
  text "e" at -8.411,2.162 h3.51
  text "i" at -6.994,2.162 h3.51
  text "v" at -6.364,2.162 h3.51
  text "e" at -5.105,2.162 h3.51
  text "r" at -3.688,2.162 h3.51
  text "_" at -2.744,2.162 h3.51
  text "s" at -1.642,2.162 h3.51
  text "c" at -0.54,2.162 h3.51
  text "h" at 0.719,2.162 h3.51
  text "e" at 2.293,2.162 h3.51
  text "m" at 3.71,2.162 h3.51
  text "a" at 6.071,2.162 h3.51
  text "t" at 7.488,2.162 h3.51
  text "i" at 8.432,2.162 h3.51
  text "c" at 9.062,2.162 h3.51
  text "." at 10.321,2.162 h3.51
  text "S" at 10.95,2.162 h3.51
  text "c" at 12.367,2.162 h3.51
  text "h" at 13.626,2.162 h3.51
  text "D" at 15.2,2.162 h3.51
  text "o" at 17.089,2.162 h3.51
  text "c" at 18.663,2.162 h3.51

## PCBComponent_1 - duplicate [mm]

## PUSHBUTTON [mm]
pads (4):
  rect 1.55x1.3 smd: 1(-4,2.25) 1(4,2.25) 2(-4,-2.25) 2(4,-2.25)
Top Overlay:
  circle w0.254: c0,0 r2.11
  lines w0.254: -3,-3 3,-3 3,3 -3,3 -3,-3
3D body "TL3301AFxxxxG.stp": height 5.12, standoff 0.02, extent -5,-3 5,3

## R0603 [mm] "Chip Resistor, Body 1.6x0.8mm, IPC Medium Density"
height 0.6
pads (2):
  rect 0.9x1 smd: 1(-0.8,0) 2(0.8,0)
Top Overlay:
  lines w0.2: -0.05,-0.4 0.05,-0.4 ; -0.05,0.4 0.05,0.4
Mechanical 13:
  lines w0.1: -0.85,-0.475 -0.85,0.475 0.85,0.475 0.85,-0.475 -0.85,-0.475
Mechanical 15:
  lines w0.05: -0.475,0 0.475,0 ; 0,-0.475 0,0.475 ; -1.5,-0.75 -1.5,0.75 1.5,0.75 1.5,-0.75 -1.5,-0.75
3D body: height 0.6, standoff 0, extent 0.581,-0.474 0.85,0.475
3D body: height 0.6, standoff 0, extent -0.58,-0.474 0.581,0.475
3D body: height 0.6, standoff 0, extent -0.849,-0.474 -0.58,0.475

## R0805 [mm] "Chip Resistor, Body 2.0x1.3mm, IPC Medium Density"
height 0.7
pads (2):
  rect 1.05x1.4 smd: 1(-0.95,0) 2(0.95,0)
Top Overlay:
  lines w0.2: -0.05,-0.6 0.05,-0.6 ; -0.05,0.6 0.05,0.6
Mechanical 13:
  lines w0.1: -1.1,-0.675 1.1,-0.675 1.1,0.675 -1.1,0.675 -1.1,-0.675
Mechanical 15:
  lines w0.05: -1.75,-0.95 1.75,-0.95 1.75,0.95 -1.75,0.95 -1.75,-0.95
  lines w0.1: -0.5,0 0.5,0 ; 0,-0.5 0,0.5
3D body "User Library-res0805.STEP": height 0.53, standoff 0, extent -1.465,-0.702 1.535,0.698

## SOT-23-8 [mm] "SOT-23-8"
pads (8):
  rect 0.4x1.1 smd: 1(-0.975,-1.3) 2(-0.325,-1.3) 3(0.325,-1.3) 4(0.975,-1.3) 5(0.975,1.3) 6(0.325,1.3) 7(-0.325,1.3) 8(-0.975,1.3)
Top Overlay:
  circle w0.152: c-1.576,-1.4 r0.076
  lines w0.191: -1.46,-0.85 -1.46,0.65 ; 1.44,-0.85 1.44,0.65
3D body "User Library-SOT23-8.step": height 1.11, standoff 0, extent -1.5,-1.402 1.5,1.402